# Altium footprint library Footprint_SMT_Crystals.PcbLib: 5 footprints
Each footprint in its own frame and in the unit in brackets; x right, y up, seen from the top. Pads: shape width x height; smd on the part's side, far side on the other; paste and mask are expansions set on the pad; w line width, h text height; cw(c..) or ccw(c..) is an arc to the next point about the centre after c.
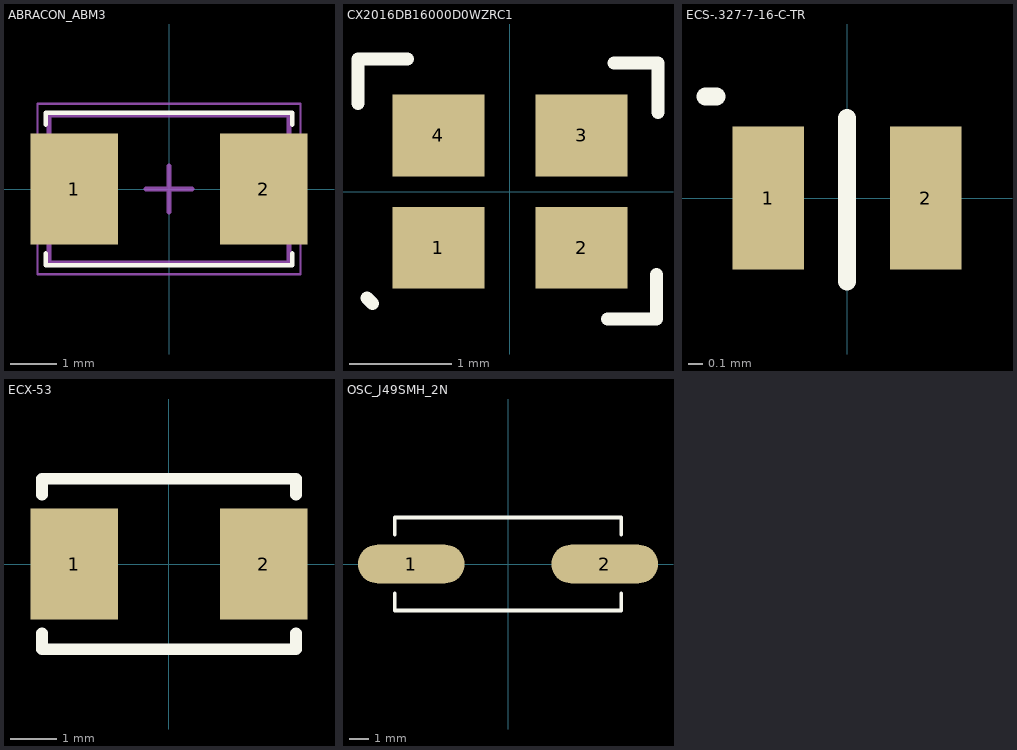
[diagram p0: the footprints below, top view; thin cyan lines are the x and y axes]

## ABRACON_ABM3 [mm] "Abracon ABM3 series, 2-Leads, Body 3.10x5.00mm"
height 1.3
pads (2):
  rect 1.9x2.4 smd: 1(-2.05,0) 2(2.05,0)
Top Overlay:
  lines w0.1: -2.667,-1.397 -2.667,-1.651 2.667,-1.651 2.667,-1.397 ; -2.667,1.397 -2.667,1.651 2.667,1.651 2.667,1.397
Mechanical 13:
  lines w0.1: -2.6,-1.6 2.6,-1.6 2.6,1.6 -2.6,1.6 -2.6,-1.6
Mechanical 15:
  lines w0.05: -2.85,-1.85 2.85,-1.85 2.85,1.85 -2.85,1.85 -2.85,-1.85
  lines w0.1: -0.5,0 0.5,0 ; 0,-0.5 0,0.5
3D body "ABRACON_ABM3_D.step": height 1.3, standoff 0, extent -2.6,-1.6 2.6,1.6

## CX2016DB16000D0WZRC1 [mm] "16MHz 2x1.6"
pads (4):
  rect 0.9x0.8 smd: 1(-0.7,-0.55) 2(0.7,-0.55) 3(0.7,0.55) 4(-0.7,0.55)
Top Overlay:
  lines w0.127: -1.486,0.864 -1.486,1.295 -1.003,1.295 ; -1.397,-1.041 -1.346,-1.092 ; 0.953,-1.245 1.435,-1.245 1.435,-0.813 ; 1.016,1.257 1.448,1.257 1.448,0.775
3D body "VFLGA4_2X1_6.step": height 0.89, standoff 0, extent -0.978,-0.825 1.028,0.775

## ECS-.327-7-16-C-TR [mm] "32.768KHz Crystal"
pads (2):
  rect 0.5x1 smd: 1(-0.55,0) 2(0.55,0)
Top Overlay:
  lines w0.127: -0.991,0.711 -0.914,0.711 ; 0,-0.584 0,0.559
3D body "ECS-.327-12.5-16-TR--3DModel-STEP-40055.STEP": height 0.5, standoff 0, extent -0.8,-0.5 0.8,0.5

## ECX-53 [mm] "The ECX-53 is a miniature SMD Crystal with a 3.2 x 5 mm  footprint."
height 1.4
pads (2):
  rect 1.9x2.4 smd: 1(-2.05,0) 2(2.05,0)
Top Overlay:
  lines w0.254: -2.75,-1.5 -2.75,-1.85 2.75,-1.85 2.75,-1.5 ; -2.75,1.5 -2.75,1.85 2.75,1.85 2.75,1.5
3D body "ECS-250-18-30-JEM-TR--3DModel-STEP-40055.STEP": height 1.4, standoff 0, extent -2.5,-1.6 2.5,1.6

## OSC_J49SMH_2N [mm] "Crystal, 11.5 x 4.8 mm, 2 pad version"
height 4
pads (2):
  oval 5.5x2 smd: 1(-5,0) 2(5,0)
Top Overlay:
  lines w0.2: -5.85,-1.532 -5.85,-2.4 5.85,-2.4 5.85,-1.532 ; -5.85,1.532 -5.85,2.4 5.85,2.4 5.85,1.532